# Altium footprint library crystals_oscillators.PCBLIB: 1 footprints
Each footprint in its own frame and in the unit in brackets; x right, y up, seen from the top. Pads: shape width x height; smd on the part's side, far side on the other; paste and mask are expansions set on the pad; w line width, h text height; cw(c..) or ccw(c..) is an arc to the next point about the centre after c.
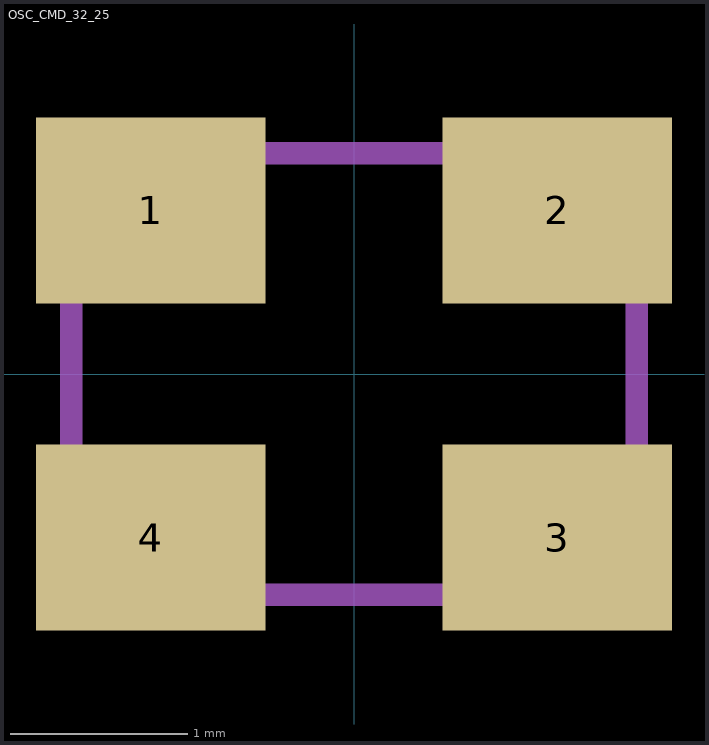
[diagram p0: the footprint, top view; thin cyan lines are the x and y axes]

## OSC_CMD_32_25 [mm]
pads (4):
  rect 1.3x1.05 smd: 1(-1.15,0.925) 2(1.15,0.925) 3(1.15,-0.925) 4(-1.15,-0.925)
Mechanical 16:
  lines w0.127: -1.6,-1.25 1.6,-1.25 1.6,1.25 -1.6,1.25 -1.6,-1.25
3D body "ABM8.STEP": height 0.8, standoff 0, extent -1.6,-1.244 1.6,1.245